# EAGLE library part MPU_6050_BREAKOUT (library GIX)
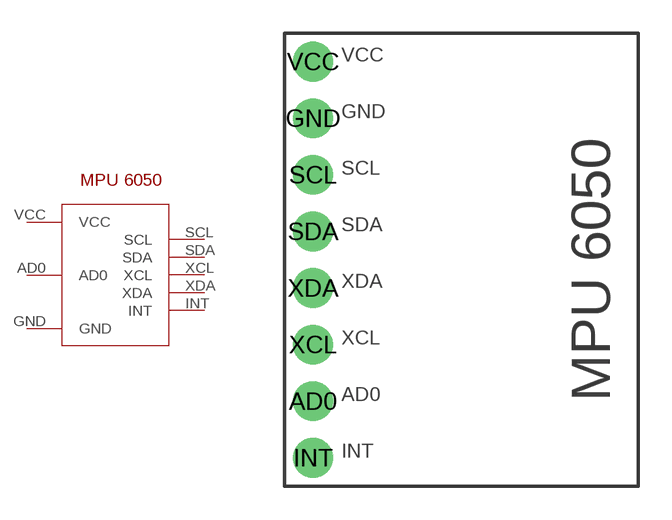
[diagram p1: symbol with the pads of MPU6050_BREAKOUT; footprint MPU6050_BREAKOUT]

Designator prefix -

## MPU_6050_BREAKOUT  [MPU6050_BREAKOUT]
AD0  AD0
GND  GND
INT  INT
SCL  SCL
SDA  SDA
VCC  VCC
XCL  XCL
XDA  XDA

## Footprint MPU6050_BREAKOUT (pad centres in mm)
drill 1.016 pad 1.778: AD0 0,-6.35; GND 0,6.35; INT 0,-8.89; SCL 0,3.81; SDA 0,1.27; VCC 0,8.89; XCL 0,-3.81; XDA 0,-1.27